# EAGLE library part PAM2423 (library nathans-custom-parts)
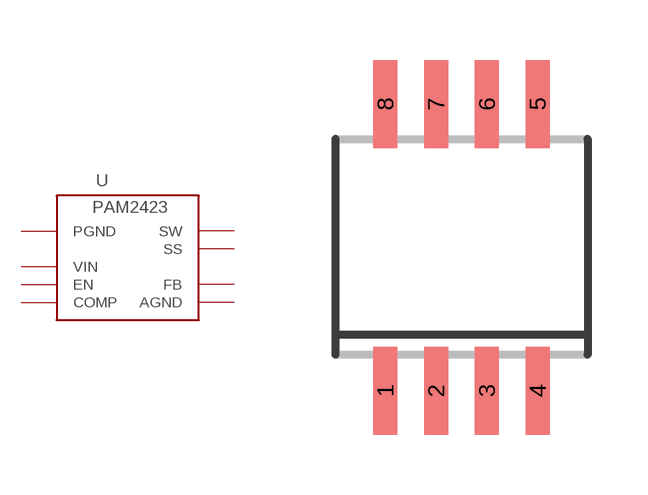
[diagram p0: symbol with the pads of SOP-08; footprint SOP-08]

Designator prefix -

## PAM2423  [SOP-08]
1  PGND
2  VIN
3  EN
4  COMP
5  SW
6  SS
7  FB
8  AGND

## Footprint SOP-08 (pad centres in mm)
PS (R-PDSO-G8) Source: http://focus.ti.com .. sn65176b.pdf
smd 0.6 x 2.2: 1 -1.905,-3.6; 2 -0.635,-3.6; 3 0.635,-3.6; 4 1.905,-3.6; 5 1.905,3.575; 6 0.635,3.575; 7 -0.635,3.575; 8 -1.905,3.575